# EAGLE library part ONION-OMEGA2S (library IoTMakers)
Omega2 IoT Computer
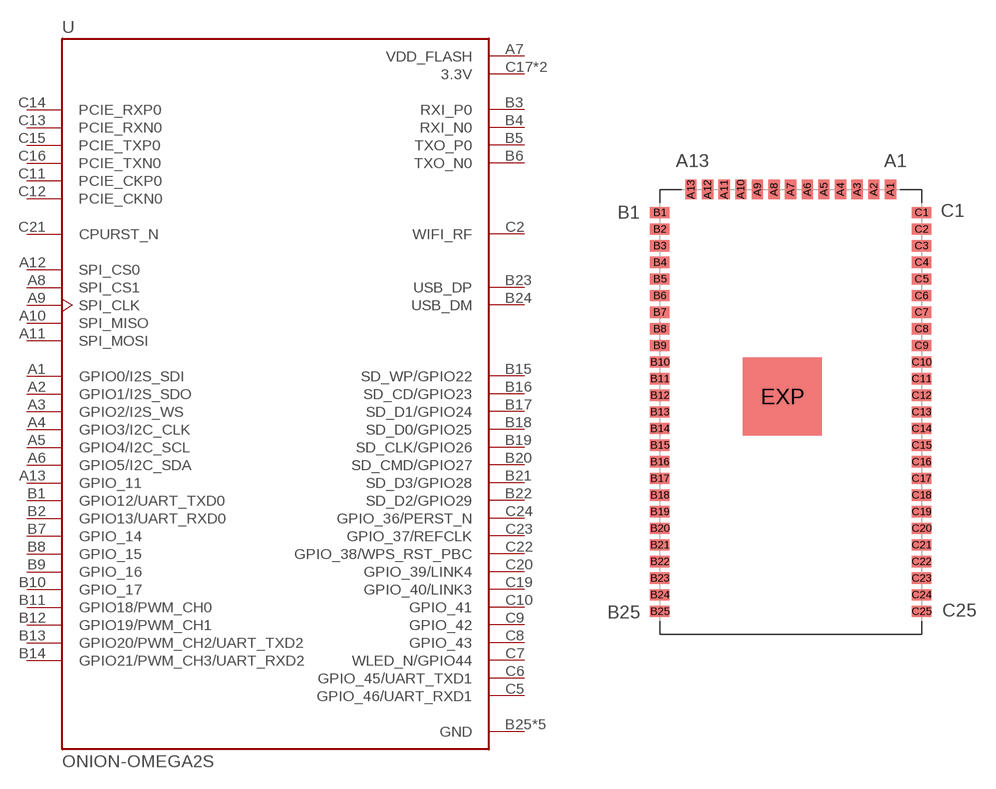
[diagram p24: symbol with the pads of MODULE_OM-O2S; footprint MODULE_OM-O2S]

Designator prefix U

## ONION-OMEGA2S (AVAILABILITY: Unavailable; MF: Onion; MP: OM-O2S; PACKAGE: Package Analog Devices; PRICE: None)  [MODULE_OM-O2S]
A1  GPIO0/I2S_SDI
A2  GPIO1/I2S_SDO
A3  GPIO2/I2S_WS
A4  GPIO3/I2C_CLK
A5  GPIO4/I2C_SCL
A6  GPIO5/I2C_SDA
A7  VDD_FLASH  pwr
A8  SPI_CS1  in
A9  SPI_CLK  in
A10  SPI_MISO  in
A11  SPI_MOSI  out
A12  SPI_CS0  in
A13  GPIO_11
B1  GPIO12/UART_TXD0
B2  GPIO13/UART_RXD0
B3  RXI_P0  in
B4  RXI_N0  in
B5  TXO_P0  out
B6  TXO_N0  out
B7  GPIO_14
B8  GPIO_15
B9  GPIO_16
B10  GPIO_17
B11  GPIO18/PWM_CH0
B12  GPIO19/PWM_CH1
B13  GPIO20/PWM_CH2/UART_TXD2
B14  GPIO21/PWM_CH3/UART_RXD2
B15  SD_WP/GPIO22
B16  SD_CD/GPIO23
B17  SD_D1/GPIO24
B18  SD_D0/GPIO25
B19  SD_CLK/GPIO26
B20  SD_CMD/GPIO27
B21  SD_D3/GPIO28
B22  SD_D2/GPIO29
B23  USB_DP
B24  USB_DM
B25  GND  pwr
C1  GND  pwr
C2  WIFI_RF  out
C3  GND  pwr
C4  GND  pwr
C5  GPIO_46/UART_RXD1
C6  GPIO_45/UART_TXD1
C7  WLED_N/GPIO44
C8  GPIO_43
C9  GPIO_42
C10  GPIO_41
C11  PCIE_CKP0  out
C12  PCIE_CKN0  out
C13  PCIE_RXN0  in
C14  PCIE_RXP0  in
C15  PCIE_TXP0  out
C16  PCIE_TXN0  out
C17  3.3V  pwr
C18  3.3V  pwr
C19  GPIO_40/LINK3
C20  GPIO_39/LINK4
C21  CPURST_N  in
C22  GPIO_38/WPS_RST_PBC
C23  GPIO_37/REFCLK
C24  GPIO_36/PERST_N
C25  GND  pwr

## Footprint MODULE_OM-O2S (pad centres in mm)
smd 0.86 x 1.5: A1 7.62,17; A2 6.35,17; A3 5.08,17; A4 3.81,17; A5 2.54,17; A6 1.27,17; A7 0,17; A8 -1.27,17; A9 -2.54,17; A10 -3.81,17; A11 -5.08,17; A12 -6.35,17; A13 -7.62,17
smd 1.5 x 0.86: B1 -10,15.24; B2 -10,13.97; B3 -10,12.7; B4 -10,11.43; B5 -10,10.16; B6 -10,8.89; B7 -10,7.62; B8 -10,6.35; B9 -10,5.08; B10 -10,3.81; B11 -10,2.54; B12 -10,1.27; B13 -10,0; B14 -10,-1.27; B15 -10,-2.54; B16 -10,-3.81; B17 -10,-5.08; B18 -10,-6.35; B19 -10,-7.62; B20 -10,-8.89; B21 -10,-10.16; B22 -10,-11.43; B23 -10,-12.7; B24 -10,-13.97; B25 -10,-15.24; C1 10,15.24; C2 10,13.97; C3 10,12.7; C4 10,11.43; C5 10,10.16; C6 10,8.89; C7 10,7.62; C8 10,6.35; C9 10,5.08; C10 10,3.81; C11 10,2.54; C12 10,1.27; C13 10,0; C14 10,-1.27; C15 10,-2.54; C16 10,-3.81; C17 10,-5.08; C18 10,-6.35; C19 10,-7.62; C20 10,-8.89; C21 10,-10.16; C22 10,-11.43; C23 10,-12.7; C24 10,-13.97; C25 10,-15.24
smd 6.041 x 5.959: EXP -0.631,1.174